# EAGLE library part LM239 (library misc_devices)
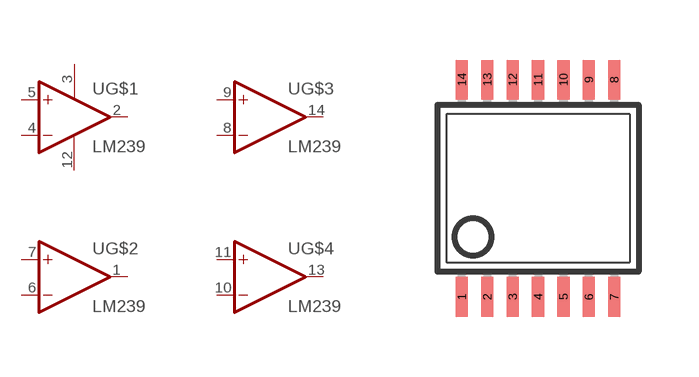
[diagram p1: symbol with the pads of TSSOP14; footprint TSSOP14]

Designator prefix -; gates G$1=COMPARATOR_OC G$2=COMPARATOR_OC G$3=COMPARATOR_OC G$4=COMPARATOR_OC G$5=PWR_G

## LM239  [TSSOP14]
1  G$2:OUT  oc
2  G$1:OUT  oc
3  G$5:V+  pwr
4  G$1:-IN  in
5  G$1:+IN  in
6  G$2:-IN  in
7  G$2:+IN  in
8  G$3:-IN  in
9  G$3:+IN  in
10  G$4:-IN  in
11  G$4:+IN  in
12  G$5:GND  pwr
13  G$4:OUT  oc
14  G$3:OUT  oc

## Footprint TSSOP14 (pad centres in mm)
smd 0.305 x 0.991: 1 0.675,-0.548; 2 1.31,-0.548; 3 1.945,-0.548; 4 2.58,-0.548; 5 3.215,-0.548; 6 3.85,-0.548; 7 4.485,-0.548; 8 4.485,4.888; 9 3.85,4.888; 10 3.215,4.888; 11 2.58,4.888; 12 1.945,4.888; 13 1.31,4.888; 14 0.675,4.888